# EAGLE library part BEL_STEWART_SI-52003-F_MAGJACK (library APU_ENGR480_UPS_EAGLE_Library)
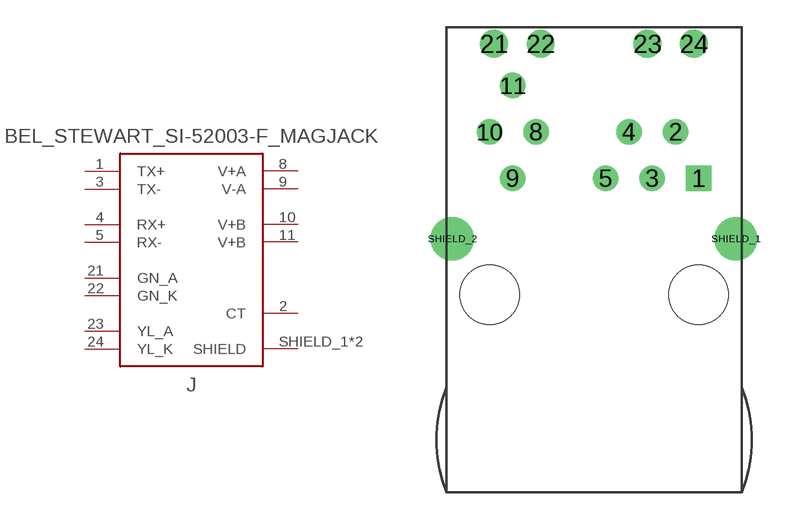
[diagram p12: symbol with the pads of BEL_STEWART_SI-52003-F_MAGJACK; footprint BEL_STEWART_SI-52003-F_MAGJACK]

Designator prefix J

## BEL_STEWART_SI-52003-F_MAGJACK  [BEL_STEWART_SI-52003-F_MAGJACK]
1  TX+
2  CT
3  TX-
4  RX+
5  RX-
8  V+A
9  V-A
10  V+B
11  V+B
21  GN_A
22  GN_K
23  YL_A
24  YL_K
SHIELD_1  SHIELD
SHIELD_2  SHIELD

## Footprint BEL_STEWART_SI-52003-F_MAGJACK (pad centres in mm)
drill 0.889 square: 1 5.715,4.445
drill 0.889: 2 4.445,6.985; 3 3.175,4.445; 4 1.905,6.985; 5 0.635,4.445; 8 -3.175,6.985; 9 -4.445,4.445; 10 -5.715,6.985; 11 -4.445,9.525
drill 1.016: 21 -5.461,11.811; 22 -2.921,11.811; 23 2.921,11.811; 24 5.461,11.811
drill 1.575: SHIELD_1 7.747,1.143; SHIELD_2 -7.747,1.143
hole 3.251 at -5.715,-1.905
hole 3.251 at 5.715,-1.905